# EAGLE library part LMR14050 (library misc)
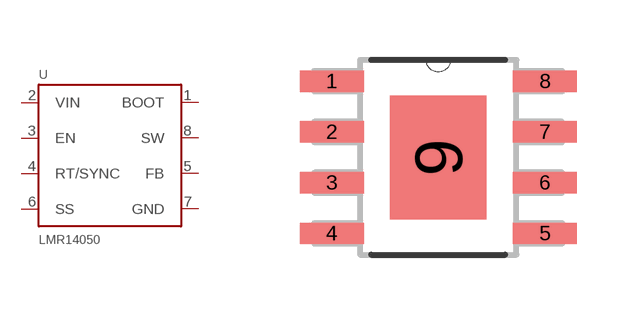
[diagram p3: symbol with the pads of SO_POWERPAD; footprint SO_POWERPAD]

Designator prefix U

## LMR14050  [SO_POWERPAD]
1  BOOT
2  VIN
3  EN
4  RT/SYNC
5  FB
6  SS
7  GND
8  SW

## Footprint SO_POWERPAD (pad centres in mm)
smd 1.6 x 0.533: 1 -2.667,1.905; 2 -2.667,0.635; 3 -2.667,-0.635; 4 -2.667,-1.905; 5 2.667,-1.905; 6 2.667,-0.635; 7 2.667,0.635; 8 2.667,1.905
smd 2.413 x 3.099: 9 0,0